# Altium schematic symbol library DP83TG720S-Q1.SchLib: 1 symbol
Pins are listed as number, name and electrical type; pins without a type are passive.

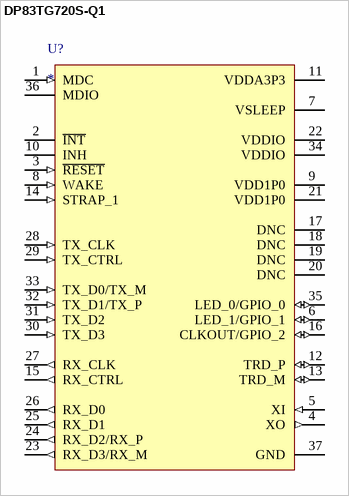
[diagram p0: symbol DP83TG720S-Q1]

## DP83TG720S-Q1
designator U?
pins: 1 MDC (in), 2 ~{INT} (oc), 3 ~{RESET} (in), 4 XO (out), 5 XI (in), 6 LED_1/GPIO_1 (io), 7 VSLEEP (power), 8 WAKE (in), 9 VDD1P0 (power), 10 INH (power), 11 VDDA3P3 (power), 12 TRD_P (io), 13 TRD_M (io), 14 STRAP_1 (in), 15 RX_CTRL (out), 16 CLKOUT/GPIO_2 (io), 17 DNC, 18 DNC, 19 DNC, 20 DNC, 21 VDD1P0 (power), 22 VDDIO (power), 23 RX_D3/RX_M (out), 24 RX_D2/RX_P (out), 25 RX_D1 (out), 26 RX_D0 (out), 27 RX_CLK (out), 28 TX_CLK (in), 29 TX_CTRL (in), 30 TX_D3 (in), 31 TX_D2 (in), 32 TX_D1/TX_P (in), 33 TX_D0/TX_M (in), 34 VDDIO (power), 35 LED_0/GPIO_0 (io), 36 MDIO (oc), 37 GND (power)